# EAGLE library part LEVEL_SHIFTER-2BIT (library CougsInSpace-IC-Comms)
Logic Level Shifter Bidirectional - 2b
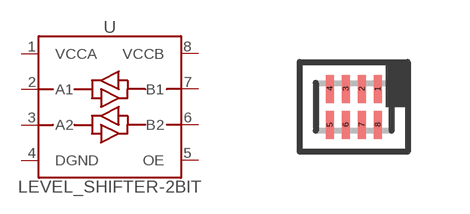
[diagram p0: symbol with the pads of X2SON-8; footprint X2SON-8]

Designator prefix U

## LEVEL_SHIFTER-2BIT-XSON-8 (SKU: 09-0001; VALUE: TXS0102DQM)  [X2SON-8]
1  VCCA  pwr
2  A1
3  A2
4  DGND  pwr
5  OE  in
6  B2
7  B1
8  VCCB  pwr

## Footprint X2SON-8 (pad centres in mm)
Extra Small Outline No-Lead - 8pins
smd 0.2 x 0.7: 1 0.6,0.45; 2 0.2,0.45; 3 -0.2,0.45; 4 -0.6,0.45; 5 -0.6,-0.45; 6 -0.2,-0.45; 7 0.2,-0.45; 8 0.6,-0.45